# Altium footprint library pcblibLS.PcbLib: 49 footprints (part 4 of 4)
Each footprint in its own frame and in the unit in brackets; x right, y up, seen from the top. Pads: shape width x height; smd on the part's side, far side on the other; paste and mask are expansions set on the pad; w line width, h text height; cw(c..) or ccw(c..) is an arc to the next point about the centre after c.
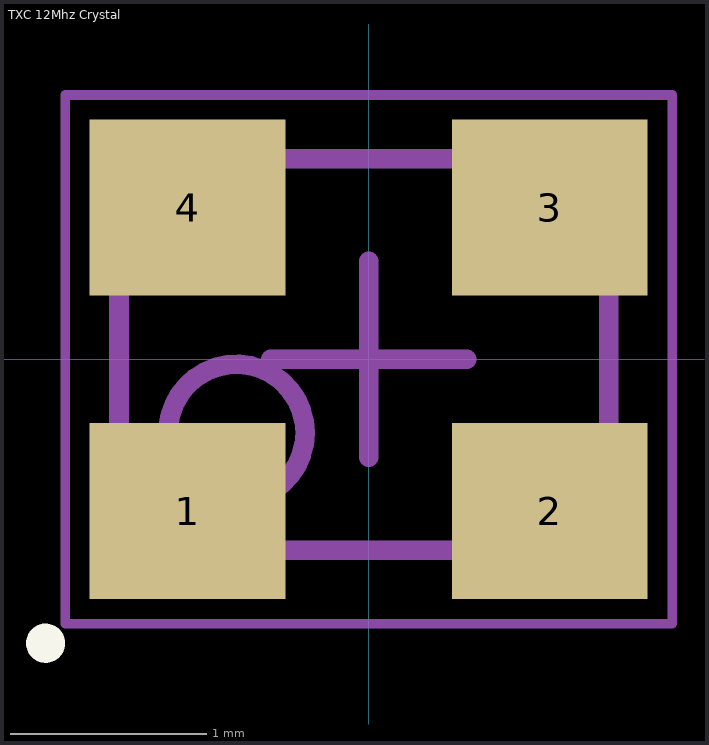
[diagram p3: the footprint, top view; thin cyan lines are the x and y axes]

## TXC 12Mhz Crystal [mm] "2.5x2mm SON"
pads (4):
  rect 1x0.9 smd: 1(-0.925,-0.775) 2(0.925,-0.775) 3(0.925,0.775) 4(-0.925,0.775)
Top Overlay:
  circle w0.1: c-1.65,-1.45 r0.05
Mechanical 13:
  circle w0.1: c-0.675,-0.375 r0.35
  lines w0.1: -1.275,-0.975 -1.275,1.025 1.225,1.025 1.225,-0.975 -1.275,-0.975
Mechanical 15:
  lines w0.05: -1.55,-1.35 -1.55,1.35 1.55,1.35 1.55,-1.35 -1.55,-1.35
  lines w0.1: -0.5,0 0.5,0 ; 0,-0.5 0,0.5
3D body: height 0.6, standoff 0, extent -1.275,-0.975 1.225,1.025